# Altium schematic symbol library Estacion_Meteorologica_Final.SchLib: 71 symbols
Pins are listed as number, name and electrical type; pins without a type are passive.

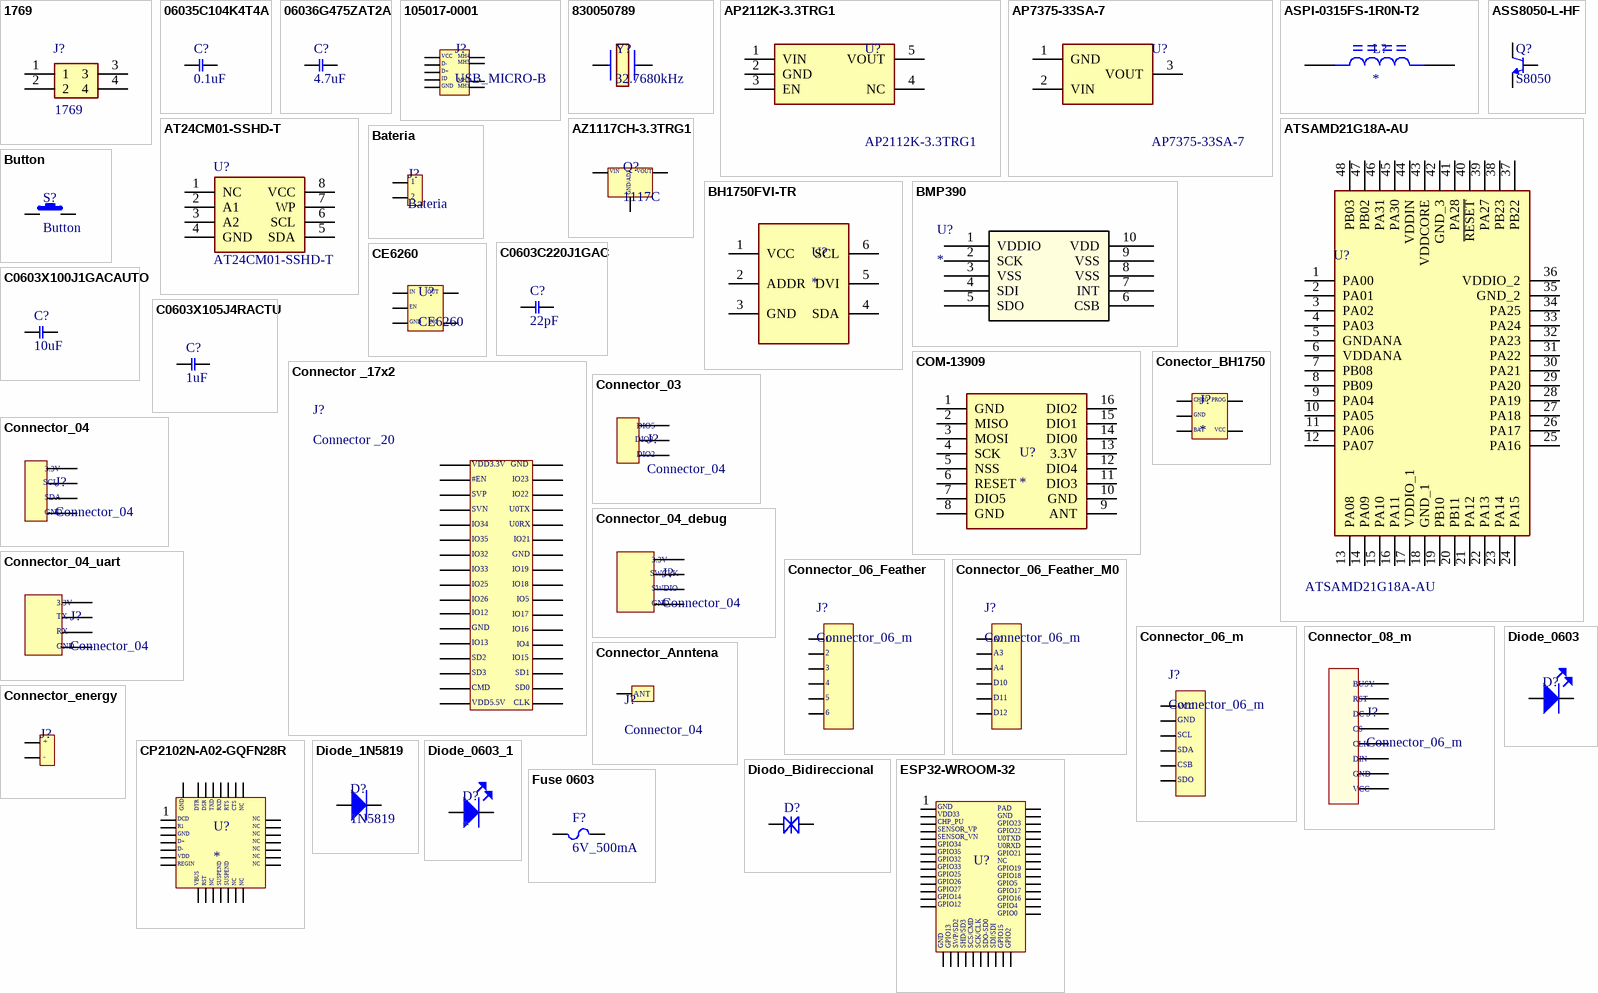
[diagram p0: symbols 1769 to Fuse 0603]

## 1769
designator J?
Adafruit Accessories JST-PH 2-pin SMT Right Angle Connect; Geometry.Height: 5.5mm; Mouser Part Number: 485-1769; Mouser Price/Stock: https://www.mouser.co.uk/ProductDetail/Adafruit/1769?qs=GURawfaeGuBbgoGtf2XstA%3D%3D; Manufacturer_Name: Adafruit; Manufacturer_Part_Number: 1769; Datasheet Link: https://cdn-shop.adafruit.com/datasheets/17311.pdf
footprint 1769_Conector_Bateria
pins: 1, 2, 3, 4

## 06035C104K4T4A
designator C?, comment 0.1uF
Capacitor_0.1uF_0603
footprint CAPCP1608_0603 (Chip Capacitor, 2-Leads, Body 1.60x0.80mm, IPC Medium Density)
pins: 1, 2

## 06036G475ZAT2A
designator C?, comment 4.7uF
Capacitor_4.7uF_0603
footprint CAPCP1608_0603 (Chip Capacitor, 2-Leads, Body 1.60x0.80mm, IPC Medium Density)
pins: 1, 2

## 105017-0001
designator J?, comment USB_MICRO-B
Conector Micro usb
footprint USB_MICRO
pins: 1, 2, 3, 4, 5, 6, 7, 8, 9
text: VCC; MH4; D-; MH3; D+; ID; GND; MH2; MH1

## 830050789
designator Y?, comment 32.7680kHz
XTAL 32.7680kHz 20ppm 2.0 x 1.2mm
footprint XTAL 830050789
pins: 1, 2

## AP2112K-3.3TRG1
designator U?
600mA 3.3V LDO Regulator Enable SOT23-5 DiodesZetex AP2112K-3.3TRG1, LDO Voltage Regulator, 3.3 V +/-1.5%, 2.5  6 Vin, 5-Pin SOT-23; Manufacturer_Name: Diodes Incorporated; Geometry.Height: 1.4mm; Mouser Part Number: 621-AP2112K-3.3TRG1; Mouser Price/Stock: https://www.mouser.co.uk/ProductDetail/Diodes-Incorporated/AP2112K-3.3TRG1?qs=x6A8l6qLYDDPYHosCdzh%2FA%3D%3D; Manufacturer_Part_Number: AP2112K-3.3TRG1; Datasheet Link: https://www.diodes.com//assets/Datasheets/AP2112.pdf
footprint SOT-23-5
pins: 1 VIN, 2 GND, 3 EN, 4 NC, 5 VOUT

## AP7375-33SA-7
designator U?
Regulator 3.3V LDO  SOT23 DiodesZetex Voltage Regulator, 3.3 V +/-1.5%,; Manufacturer_Name: Diodes Incorporated; Manufacturer_Part_Number: AP2112K-3.3TRG1; Geometry.Height: 1.4mm; Mouser Part Number: 621-AP2112K-3.3TRG1; Mouser Price/Stock: https://www.mouser.co.uk/ProductDetail/Diodes-Incorporated/AP2112K-3.3TRG1?qs=x6A8l6qLYDDPYHosCdzh%2FA%3D%3D; Datasheet Link: https://www.diodes.com//assets/Datasheets/AP2112.pdf
footprint SOT23_
pins: 1 GND, 2 VIN, 3 VOUT

## ASPI-0315FS-1R0N-T2
designator L?
MP: ASPI-0315FS-1R0N-T2; Package: None; Price: None; Value: *; Availability: Unavailable
footprint IND_ASPI-0315FS-1R0N-T2
pins: 1, 2

## ASS8050-L-HF
designator Q?, comment S8050
Transistor_Sot_23_j3y
footprint SOT23_8050_JY3 (SOT23, 3-Leads, Body 2.90x2.40mm, Pitch 0.95mm, IPC Medium Density)
pins: 1, 2, 3

## AT24CM01-SSHD-T
designator U?
EEPROM SERIAL EEPROM, 1M 2-WIR-8 SOIC; Manufacturer_Name: Microchip; Geometry.Height: 1.75mm; Mouser Part Number: 556-AT24CM01-SSHD-T; Mouser Price/Stock: https://www.mouser.co.uk/ProductDetail/Microchip-Technology/AT24CM01-SSHD-T?qs=s44pgLhgXQig9Z6HBeFbBg%3D%3D; Manufacturer_Part_Number: AT24CM01-SSHD-T; Datasheet Link: https://4donline.ihs.com/images/VipMasterIC/IC/ATML/ATML-S-A0000726505/ATML-S-A0000726505-1.pdf?hkey=EF798316E3902B6ED9A73243A3159BB0
footprint SOIC-8N
pins: 1 NC, 2 A1, 3 A2, 4 GND, 5 SDA, 6 SCL, 7 WP, 8 VCC

## ATSAMD21G18A-AU
designator U?
ARM Microcontrollers - MCU 256KB 32KB 48TQFP GRN1.6-3.6V48MHz; Manufacturer_Name: Microchip; Geometry.Height: 1.2mm; Mouser Part Number: 556-ATSAMD21G18A-AU; Mouser Price/Stock: https://www.mouser.co.uk/ProductDetail/Microchip-Technology/ATSAMD21G18A-AU?qs=KLFHFgXTQiDh1vL0VLU76Q%3D%3D; Manufacturer_Part_Number: ATSAMD21G18A-AU; Datasheet Link: https://datasheet.lcsc.com/lcsc/1810010234_Microchip-Tech-ATSAMD21G18A-AU_C78624.pdf
footprint QFP-48N
pins: 1 PA00, 2 PA01, 3 PA02, 4 PA03, 5 GNDANA, 6 VDDANA, 7 PB08, 8 PB09, 9 PA04, 10 PA05, 11 PA06, 12 PA07, 13 PA08, 14 PA09, 15 PA10, 16 PA11, 17 VDDIO_1, 18 GND_1, 19 PB10, 20 PB11, 21 PA12, 22 PA13, 23 PA14, 24 PA15, 25 PA16, 26 PA17, 27 PA18, 28 PA19, 29 PA20, 30 PA21, 31 PA22, 32 PA23, 33 PA24, 34 PA25, 35 GND_2, 36 VDDIO_2, 37 PB22, 38 PB23, 39 PA27, 40 ~{RESET}, 41 PA28, 42 GND_3, 43 VDDCORE, 44 VDDIN, 45 PA30, 46 PA31, 47 PB02, 48 PB03

## AZ1117CH-3.3TRG1
designator Q?, comment 1117C
Regulador_3.3V, 1A
footprint SOT230_1117_3.3v (SOT223, 4-Leads, Body 6.30x7.00mm (avg), Pitch 2.30mm, IPC Medium Density)
pins: 1, 2, 3
text: VIN; VOUT; GND/ADJ

## Bateria
designator J?
footprint HDR1X2
pins: 1, 2

## BH1750FVI-TR
designator U?
Optical Sensor Ambient 560nm IÂ²C 6-SMD, Flat Lead Exposed Pad; MF: Rohm; MP: BH1750FVI-TR; Value: *; SnapEDA_Link: https://www.snapeda.com/parts/BH1750FVI-TR/Rohm/view-part/?ref=snap; Purchase-URL: https://pricing.snapeda.com/search/part/BH1750FVI-TR/?ref=eda; Availability: In Stock; Price: None; Package: SMD-6 ROHM Semiconductor; Check_prices: https://www.snapeda.com/parts/BH1750FVI-TR/Rohm/view-part/?ref=eda
footprint XDCR_BH1750FVI-TR
pins: 1 VCC, 2 ADDR, 3 GND, 4 SDA, 5 DVI, 6 SCL

## BMP390
designator U?
Barometric Pressure Sensor, I2C/SPI, 300-1250 hPa; Mfr_Name: Bosch Sensortec; RefDes: RefDes; Type: Type
footprint 10LGA_2X2X0p75_BOS-M
pins: 1 VDDIO, 2 SCK, 3 VSS, 4 SDI, 5 SDO, 6 CSB, 7 INT, 8 VSS, 9 VSS, 10 VDD

## Button
designator S?
Tactile Switch
footprint Button_3_4_2
pins: 1, 2

## C0603C220J1GAC
designator C?, comment 22pF
Capacitor_22pF_0603
footprint CAPCP1608_0603 (Chip Capacitor, 2-Leads, Body 1.60x0.80mm, IPC Medium Density)
pins: 1, 2

## C0603X100J1GACAUTO
designator C?, comment 10uF
Capacitor_10uF_0603
footprint CAPCP1608_0603 (Chip Capacitor, 2-Leads, Body 1.60x0.80mm, IPC Medium Density)
pins: 1, 2

## C0603X105J4RACTU
designator C?, comment 1uF
Capacitor_1uF_0603
footprint CAPCP1608_0603 (Chip Capacitor, 2-Leads, Body 1.60x0.80mm, IPC Medium Density)
pins: 1, 2

## CE6260
designator U?
CE6260_SOT235_3.3V
footprint CE6260
pins: 1, 2, 3, 4, 5
text: IN; OUT; EN; GND; NC

## COM-13909
designator U?
Rfm69hcw Wireless Transceiver 91; MP: COM-13909; Value: *; Package: None; Availability: Unavailable; Price: None
footprint COM-13909
pins: 1 GND, 2 MISO, 3 MOSI, 4 SCK, 5 NSS, 6 RESET, 7 DIO5, 8 GND, 9 ANT, 10 GND, 11 DIO3, 12 DIO4, 13 3.3V, 14 DIO0, 15 DIO1, 16 DIO2

## Conector_BH1750
designator J?
Pads
footprint SOT23_Tp4054
pins: 1, 2, 3, 4, 5
text: CHRG; PROG; GND; BAT; VCC

## Connector _17x2
designator J?, comment Connector _20
footprint HDR2X17 (Connector; Header; 20 Position X 2)
pins: 1, 2, 3, 4, 5, 6, 7, 8, 9, 10, 11, 12, 13, 14, 15, 16, 17, 18, 19, 20, 21, 22, 23, 24, 25, 26, 27, 28, 29, 30, 31, 32, 33, 34
text: VDD3.3V; GND; #EN; IO23; SVP; IO22; SVN; U0TX; IO34; U0RX; IO35; IO21; IO32; IO33; IO19; IO25; IO18; IO26; IO5; IO12; IO17; IO16; IO13; IO4; SD2; IO15; SD3; SD1; CMD; SD0; VDD5.5V; CLK

## Connector_03
designator J?, comment Connector_04
footprint HDR1X3
pins: 1, 2, 3
text: DIO5; DIO3; DIO2

## Connector_04
designator J?
footprint HDR1X4
pins: 1, 2, 3, 4
text: 3.3V; SCL; SDA; GND

## Connector_04_debug
designator J?, comment Connector_04
footprint HDR1X4
pins: 1, 2, 3, 4
text: 3.3V; SWCLK; SWDIO; GND

## Connector_04_uart
designator J?, comment Connector_04
footprint HDR1X4
pins: 1, 2, 3, 4
text: 3.3V; TX; RX; GND

## Connector_06_Feather
designator J?, comment Connector_06_m
footprint HDR1X6 (Connector; Header; 6 Position)
pins: 1, 2, 3, 4, 5, 6

## Connector_06_Feather_M0
designator J?, comment Connector_06_m
footprint HDR1X6 (Connector; Header; 6 Position)
pins: 1, 2, 3, 4, 5, 6
text: A2; A3; A4; D10; D11; D12

## Connector_06_m
designator J?
footprint HDR1X6 (Connector; Header; 6 Position)
pins: 1, 2, 3, 4, 5, 6
text: VCC; GND; SCL; SDA; CSB; SDO

## Connector_08_m
designator J?, comment Connector_06_m
footprint HDR1X8 (Connector; Header; 6 Position)
pins: 1, 2, 3, 4, 5, 6, 7, 8
text: BUSY; RST; DC; CS; CLK; DIN; GND; VCC

## Connector_Anntena
designator J?, comment Connector_04
footprint HDR1X1
pins: 1
text: ANT

## Connector_energy
designator J?
Conector de gestor de carga
footprint HDR1X2_2
pins: 1, 2
text: +; -

## CP2102N-A02-GQFN28R
designator U?
Conversor USB a UART de Silicon Labs CP2102
footprint QFN_CP2102 (QFN, 28-Leads, Body 5.00x5.00mm, Pitch 0.50mm, Thermal Pad 3.13x3.13mm, IPC Medium Density)
pins: 1, 2, 3, 4, 5, 6, 7, 8, 9, 10, 11, 12, 13, 14, 15, 16, 17, 18, 19, 20, 21, 22, 23, 24, 25, 26, 27, 28, 29
text: GND; DTR; DSR; TXD; RXD; RTS; CTS; NC; DCD; R1; D+; D-; VDD; REGIN; VBUS; RST; SUSPEND

## Diode_1N5819
designator D?, comment 1N5819
footprint SOD_1N5819 (SODFL, 2-Leads, Body 1.80x3.50mm, IPC Medium Density)
pins: 1, 2

## Diode_0603
designator D?
LED_AZUL_0603
footprint DIODO_0603
pins: 1, 2

## Diode_0603_1
designator D?
LED_ROJO_0603
footprint DIODO_0603
pins: 1, 2

## Diodo_Bidireccional
designator D?
Diodo_Bi
footprint Diodo_Bi (SODFL, 2-Leads, Body 0.80x1.60mm, IPC Medium Density)
pins: 1, 2

## ESP32-WROOM-32
designator U?
ESP-32_48Pines
footprint ESP32
pins: 1, 2, 3, 4, 5, 6, 7, 8, 9, 10, 11, 12, 13, 14, 15, 16, 17, 18, 19, 20, 21, 22, 23, 24, 25, 26, 27, 28, 29, 30, 31, 32, 33, 34, 35, 36, 37, 38, 39
text: GND; VDD33; PAD; CHP_PU; SENSOR_VP; GPIO23; SENSOR_VN; GPIO22; GPIO34; U0TXD; GPIO35; U0RXD; GPIO32; GPIO21; GPIO33; NC; GPIO25; GPIO19; GPIO26; GPIO18; GPIO27; GPIO5; GPIO14; GPIO17; GPIO12; GPIO16; GPIO4; GPIO0; GPIO13; SWP/SD2; SHD/SD3; SCS/CMD; SCK/CLK; SDO-SD0; SDI/SDI; GPIO15; GPIO2

## Fuse 0603
designator F?, comment 6V_500mA
footprint FUSE_0603
pins: 1, 2

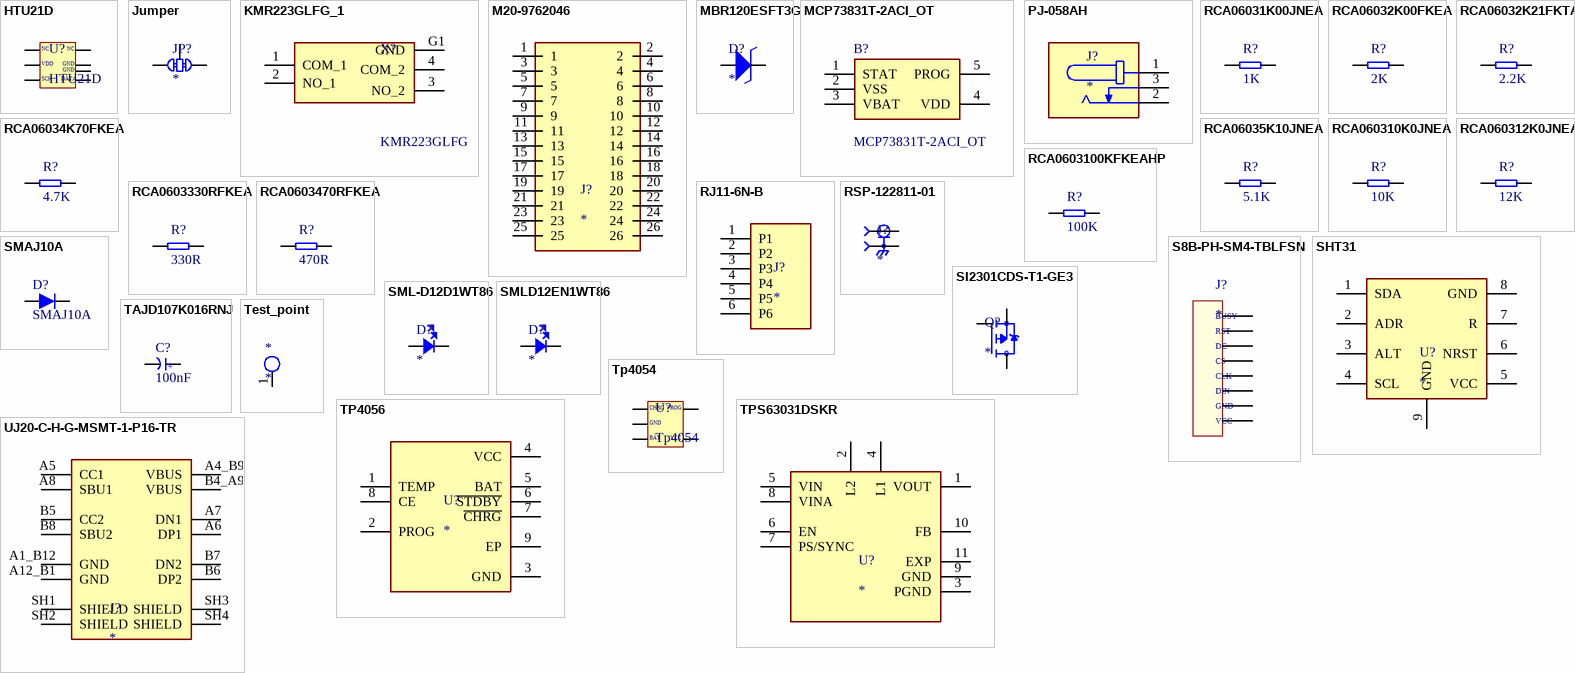
[diagram p1: symbols HTU21D to UJ20-C-H-G-MSMT-1-P16-TR]

## HTU21D
designator U?
Sensor_Temperatura
footprint HTU21D
pins: 1, 2, 3, 4, 5, 6, 7
text: NC; VDD; GND; SCK; DATA

## Jumper
designator JP?
footprint Jumper
pins: 1, 2, 3

## KMR223GLFG_1
designator X?, comment KMR223GLFG
Tactile Switch SPST-NO Top Actuated Surface Mount; Manufacturer_Name: C & K COMPONENTS; Geometry.Height: 1.9mm; Mouser Part Number: 611-KMR223GLFG; Mouser Price/Stock: https://www.mouser.co.uk/ProductDetail/CK/KMR223GLFG?qs=sb%252But3Lm4x2f%252B935G%252B3m6Q%3D%3D; Manufacturer_Part_Number: KMR223GLFG; Datasheet Link: https://www.ckswitches.com/media/1479/kmr2.pdf
footprint KMR223GLFG_Boton
pins: 1 COM_1, 2 NO_1, 3 NO_2, 4 COM_2, G1 GND

## M20-9762046
designator J?
2X20 - 2.54mm; MP: M20-9762046; Package: None; Price: None; Value: *; Availability: Unavailable
footprint HARWIN_M20-9762046
pins: 1, 2, 3, 4, 5, 6, 7, 8, 9, 10, 11, 12, 13, 14, 15, 16, 17, 18, 19, 20, 21, 22, 23, 24, 25, 26

## MBR120ESFT3G
designator D?
Diodo_Zenner_Sod-123FL-2
footprint SODFL3616X98N
pins: 1, 2

## MCP73831T-2ACI_OT
designator B?
Li-Ion Charge Controller 4.2V SOT23-5; Manufacturer_Name: Microchip; Manufacturer_Part_Number: MCP73831T-2ACI/OT; Geometry.Height: 1.45mm; Mouser Part Number: 579-MCP73831T-2ACIOT; Mouser Price/Stock: https://www.mouser.co.uk/ProductDetail/Microchip-Technology/MCP73831T-2ACI-OT?qs=yUQqVecv4qvbBQBGbHx0Mw%3D%3D; Datasheet Link: http://ww1.microchip.com/downloads/en/DeviceDoc/20001984g.pdf
footprint SOT-23-5
pins: 1 STAT, 2 VSS, 3 VBAT, 4 VDD, 5 PROG

## PJ-058AH
designator J?
2.0 x 5.7 mm, 5.0 A, Horizontal, Through Hole, Locking Type, Dc Power Jack Connector; MF: CUI Devices; MP: PJ-058AH; SnapEDA_Link: https://www.snapeda.com/parts/PJ-058AH/CUI+Devices/view-part/?ref=snap; Package: None; Value: *; CUI_purchase_URL: https://www.cuidevices.com/product/interconnect/connectors/dc-power-connectors/jacks/pj-058ah?utm_source=snapeda.com&utm_medium=referral&utm_campaign=snapedaBOM; Check_prices: https://www.snapeda.com/parts/PJ-058AH/CUI+Devices/view-part/?ref=eda
footprint CUI_PJ-058AH
pins: 1, 2, 3

## RCA06031K00JNEA
designator R?, comment 1K
Resistencia_1K_0603
footprint RESC1608_0603
pins: 1, 2

## RCA06032K00FKEA
designator R?, comment 2K
Resistencia_2K_0603
footprint RESC1608_0603
pins: 1, 2

## RCA06032K21FKTA
designator R?, comment 2.2K
Resistencia_2.2K_0603
footprint RESC1608_0603
pins: 1, 2

## RCA06034K70FKEA
designator R?, comment 4.7K
Resistencia_4.7K_0603
footprint RESC1608_0603
pins: 1, 2

## RCA06035K10JNEA
designator R?, comment 5.1K
Resistencia_5.1K_0603
footprint RESC1608_0603
pins: 1, 2

## RCA060310K0JNEA
designator R?, comment 10K
Resistencia_10K_0603
footprint RESC1608_0603
pins: 1, 2

## RCA060312K0JNEA
designator R?, comment 12K
Resistencia_12KR_0603
footprint RESC1608_0603
pins: 1, 2

## RCA0603100KFKEAHP
designator R?, comment 100K
Resistencia_100K_0603
footprint RESC1608_0603
pins: 1, 2

## RCA0603330RFKEA
designator R?, comment 330R
Resistencia_330R_0603
footprint RESC1608_0603
pins: 1, 2

## RCA0603470RFKEA
designator R?, comment 470R
Resistencia_470R_0603
footprint RESC1608_0603
pins: 1, 2

## RJ11-6N-B
designator J?
6 Position 1 Port Right Angle RJ11 Low Profile Filtered EMI/RFI Modular Jack; MP: RJ11-6N-B; MF: TE Connectivity; Price: None; Purchase-URL: https://pricing.snapeda.com/search/part/RJ11-6N-B/?ref=eda; Package: None; Check_prices: https://www.snapeda.com/parts/RJ11-6N-B/TE+Connectivity+Corcom+Filters/view-part/?ref=eda; Value: *; Availability: In Stock; SnapEDA_Link: https://www.snapeda.com/parts/RJ11-6N-B/TE+Connectivity+Corcom+Filters/view-part/?ref=snap
footprint TE_RJ11-6N-B
pins: 1 P1, 2 P2, 3 P3, 4 P4, 5 P5, 6 P6

## RSP-122811-01
designator J?
U.FL (UMCC), IPEX MHF1 Connector Receptacle, Male Pin 50Ohm Surface Mount Solder; MP: RSP-122811-01; Availability: Unavailable; Value: *; Price: None; Package: None
footprint SAMTEC_RSP-122811-01
pins: 1, G1 GND, G2 GND

## S8B-PH-SM4-TBLFSN
designator J?
Connector e-paper; Mfr_Name: JST; RefDes: RefDes; Type: Type
footprint CONN_S8B-PH-SM4-TB_JST
pins: 1, 2, 3, 4, 5, 6, 7, 8
text: BUSY; RST; DC; CS; CLK; DIN; GND; VCC

## SHT31
designator U?
Humidity Temperature Sensor 0 ~ 100% RH Analog Voltage Â±2% RH 8s Surface Mount; MP: SHT31; MF: Sensirion AG; Package: VFDFN-8 Sensirion AG; Price: None; Purchase-URL: https://pricing.snapeda.com/search/part/SHT31/?ref=eda; Availability: In Stock; Value: *; Check_prices: https://www.snapeda.com/parts/SHT31/Sensirion+AG/view-part/?ref=eda; SnapEDA_Link: https://www.snapeda.com/parts/SHT31/Sensirion+AG/view-part/?ref=snap
footprint SON50P250X250X90-9T110X180N
pins: 1 SDA, 2 ADR, 3 ALT, 4 SCL, 5 VCC, 6 NRST, 7 R, 8 GND, 9 GND

## SI2301CDS-T1-GE3
designator Q?
P-Channel 20 V 3.1A (Tc) 860mW (Ta), 1.6W (Tc) Surface Mount SOT-23; MF: Vishay; MP: SI2301CDS-T1-GE3; Package: SOT-23-3 Vishay Siliconix; Price: None; Check_prices: https://www.snapeda.com/parts/SI2301CDS-T1-GE3/Vishay+Siliconix/view-part/?ref=eda; Value: *; SnapEDA_Link: https://www.snapeda.com/parts/SI2301CDS-T1-GE3/Vishay+Siliconix/view-part/?ref=snap; Availability: In Stock; Purchase-URL: https://pricing.snapeda.com/search?q=SI2301CDS-T1-GE3&ref=eda
footprint SOT-23
pins: 1 G, 2 S, 3 D

## SMAJ10A
designator D?
TVS Diode 10V 400W Unidirectional SMAJ10A (DO-214AC)
footprint DIOM4325X250N
pins: 1 21, 2

## SML-D12D1WT86
designator D?
LED_NARANJA_0603
footprint DIODO_0603
pins: 1, 2

## SMLD12EN1WT86
designator D?
LED_VERDE_0603
footprint DIODO_0603
pins: 1, 2

## TAJD107K016RNJ
designator C?, comment 100nF
Capacitor_100uF_1206
footprint CAPC_1206 (Molded Capacitor, 2-Leads, Body 3.20x1.60mm, IPC Medium Density)
pins: 1, 2
text: +

## Test_point
designator *
footprint Test_point
pins: 1

## Tp4054
designator U?
Cargador_de_bateria_Sot23
pins: 1, 2, 3, 4, 5
text: CHRG; PROG; GND; BAT; VCC

## TP4056
designator U?
Linear Li-Ion charger IC, 4.2V CC/CV, up to 1A, auto-recharge, thermal regulation.; MF: NanJing Top Power ASIC Corp.; MP: TP4056; Check_prices: https://www.snapeda.com/parts/TP4056/NanJing+Top+Power+ASIC+Corp./view-part/?ref=eda; SnapEDA_Link: https://www.snapeda.com/parts/TP4056/NanJing+Top+Power+ASIC+Corp./view-part/?ref=snap; Price: None; Availability: Not in stock; Package: Package; Value: *
footprint SOP127P600X175-9N
pins: 1 TEMP, 2 PROG, 3 GND, 4 VCC, 5 BAT, 6 ~{STDBY}, 7 ~{CHRG}, 8 CE, 9 EP

## TPS63031DSKR
designator U?
High Efficient Single Inductor Buck-Boost Converter with 1-A Switches; MP: TPS63031DSKR; Availability: Unavailable; Value: *; Package: None; Price: None
footprint SON50P250X250X80-11N
pins: 1 VOUT, 2 L2, 3 PGND (power), 4 L1, 5 VIN, 6 EN, 7 PS/SYNC, 8 VINA, 9 GND (power), 10 FB, 11 EXP

## UJ20-C-H-G-MSMT-1-P16-TR
designator J?
Conector usb c; MP: UJ20-C-H-G-MSMT-1-P16-TR; Package: None; Price: None; Value: *; Availability: Unavailable
footprint uJ20-C-H-G-MSMT-1-P16-TR
pins: A1_B12 GND, A4_B9 VBUS, A5 CC1, A6 DP1, A7 DN1, A8 SBU1, A12_B1 GND, B4_A9 VBUS, B5 CC2, B6 DP2, B7 DN2, B8 SBU2, SH1 SHIELD, SH2 SHIELD, SH3 SHIELD, SH4 SHIELD